# Altium footprint library WeAct_RP2040.PcbLib: 1 footprints
Each footprint in its own frame and in the unit in brackets; x right, y up, seen from the top. Pads: shape width x height; smd on the part's side, far side on the other; paste and mask are expansions set on the pad; w line width, h text height; cw(c..) or ccw(c..) is an arc to the next point about the centre after c.
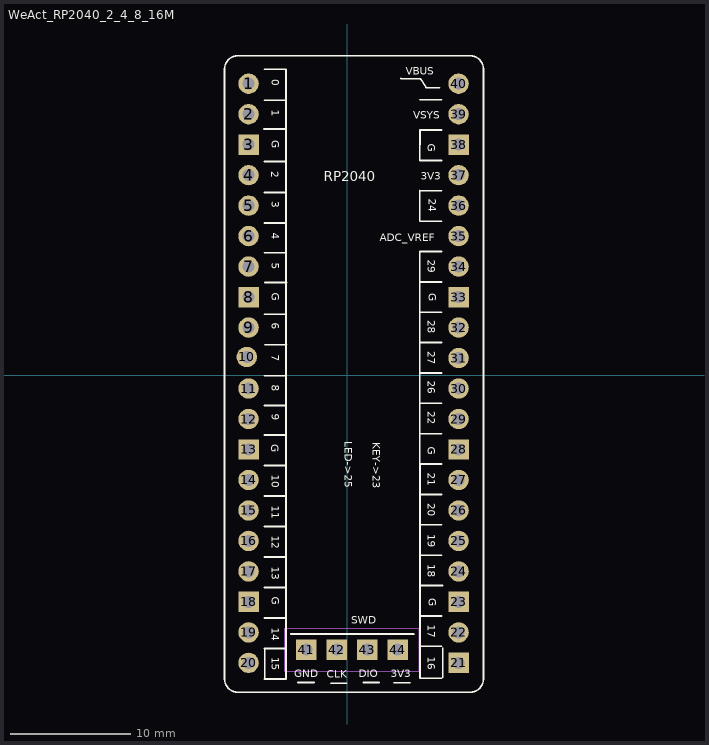
[diagram p0: the footprint, top view; thin cyan lines are the x and y axes]

## WeAct_RP2040_2_4_8_16M [mm]
pads (44):
  round 1.7 hole 1 paste+0 mask+0.102: 1(-8.239,24.295) 2(-8.239,21.755) 4(-8.239,16.675) 5(-8.239,14.135) 6(-8.239,11.595) 7(-8.239,9.055) 9(-8.239,3.975) 10(-8.382,1.524) 11(-8.239,-1.105) 12(-8.239,-3.645) 14(-8.239,-8.725) 15(-8.239,-11.265) 16(-8.239,-13.805) 17(-8.239,-16.345) 19(-8.239,-21.425) 20(-8.239,-23.965) 22(9.261,-21.425) 24(9.261,-16.345) 25(9.261,-13.805) 26(9.261,-11.265) 27(9.261,-8.725) 29(9.261,-3.645) 30(9.261,-1.105) 31(9.261,1.435) 32(9.261,3.975) 34(9.261,9.055) 35(9.261,11.595) 36(9.261,14.135) 37(9.261,16.675) 39(9.261,21.755) 40(9.261,24.295)
  rect 1.7x1.7 hole 1 paste+0 mask+0.102: 3(-8.239,19.215) 8(-8.239,6.515) 13(-8.239,-6.185) 18(-8.239,-18.885) 21(9.261,-23.965) 23(9.261,-18.885) 28(9.261,-6.185) 33(9.261,6.515) 38(9.261,19.215) 41(-3.429,-22.86) 42(-0.889,-22.86) 43(1.651,-22.86) 44(4.191,-22.86)
Top Overlay:
  lines w0.12: -6.909,-25.295 -6.909,-23.965 -6.909,-22.695 ; -4.759,-21.53 2.921,-21.53 4.191,-21.53 5.521,-21.53 ; 7.931,-25.215 7.931,-22.695
  lines w0.15: -6.973,20.52 -5.163,20.52 ; -6.933,10.2 -5.123,10.2 ; -6.923,-4.98 -5.113,-4.98 ; -6.923,-2.51 -5.113,-2.51 ; -6.923,5.08 -5.113,5.08 ; -6.913,-7.52 -5.103,-7.52 ; -6.908,-25.3 -5.108,-25.3 -5.108,25.5 ; -6.908,-22.76 -5.098,-22.76 ; -6.908,-20.22 -5.098,-20.22 ; -6.908,-17.68 -5.098,-17.68 ; -6.908,-15.14 -5.098,-15.14 ; -6.908,-12.6 -5.098,-12.6 ; -6.908,-10.06 -5.098,-10.06 ; -6.908,12.69 -5.098,12.69 ; -6.908,15.24 -5.098,15.24 ; -6.908,17.82 -5.098,17.82 ; -6.908,22.91 -5.098,22.91 ; -6.908,25.5 -5.098,25.5 ; -6.903,-0.04 -5.093,-0.04 ; -6.883,2.55 -5.073,2.55 ; -6.873,7.72 -5.063,7.72 ; -4.728,-21.58 5.572,-21.58 ; -4.118,-25.59 -2.778,-25.59 ; -1.398,-25.655 -0.058,-25.655 ; 1.312,-25.59 2.652,-25.59 ; 3.862,-25.625 5.202,-25.625 ; 4.462,24.73 6.102,24.69 ; 6.022,12.89 6.022,15.41 ; 6.029,17.885 6.054,20.455 ; 6.032,10.31 6.042,-25.24 ; 6.047,-25.25 7.847,-25.25 ; 6.047,-22.579 7.857,-22.579 ; 6.047,-20.049 7.847,-20.049 ; 6.047,-14.989 7.857,-14.989 ; 6.047,-12.459 7.847,-12.459 ; 6.047,-9.929 7.857,-9.929 ; 6.047,-7.399 7.847,-7.399 ; 6.047,-4.87 7.857,-4.87 ; 6.047,-2.34 7.847,-2.34 ; 6.047,0.19 7.857,0.19 ; 6.047,2.72 7.847,2.72 ; 6.047,5.25 7.857,5.25 ; 6.047,7.78 7.847,7.78 ; 6.047,10.31 7.857,10.31 ; 6.047,12.84 7.847,12.84 ; 6.047,15.37 7.857,15.37 ; 6.047,17.9 7.847,17.9 ; 6.047,20.43 7.857,20.43 ; 6.047,22.96 7.847,22.96 ; 6.092,24.68 6.562,23.98 ; 6.112,-17.519 7.912,-17.519 ; 6.542,23.96 7.682,23.96 ; -10.235,-25.326 ccw(c-9.155,-25.326) -9.155,-26.406 10.247,-26.406 ccw(c10.247,-25.326) 11.327,-25.326 11.327,25.536 ccw(c10.247,25.536) 10.247,26.616 -9.155,26.616 ccw(c-9.155,25.536) -10.235,25.536 -10.235,-25.326
  text "3V3" at 3.616,-25.156 h0.65
  text "16" at 6.71,-23.452 h0.65
  text "GND" at -4.414,-25.151 h0.65
  text "15" at -6.327,-23.512 h0.65
  text "DIO" at 0.946,-25.151 h0.65
  text "CLK" at -1.714,-25.196 h0.65
  text "VBUS" at 4.849,25.042 h0.65
  text "20" at 6.71,-10.672 h0.65
  text "18" at 6.71,-15.742 h0.65
  text "19" at 6.71,-13.242 h0.65
  text "VSYS" at 5.484,21.359 h0.65
  text "SWD" at 0.322,-20.71 h0.65
  text "G" at -6.326,-18.443 h0.65
  text "13" at -6.327,-15.972 h0.65
  text "14" at -6.327,-21.032 h0.65
  text "G" at 6.711,-5.971 h0.65
  text "21" at 6.71,-8.142 h0.65
  text "KEY->23" at 2.101,-5.58 h0.65
  text "3V3" at 6.119,16.279 h0.65
  text "ADC_VREF" at 2.69,11.18 h0.65
  text "10" at -6.327,-8.292 h0.65
  text "G" at -6.336,-5.743 h0.65
  text "11" at -6.327,-10.882 h0.65
  text "G" at 6.754,-18.565 h0.65
  text "17" at 6.71,-20.802 h0.65
  text "LED->25" at -0.229,-5.49 h0.65
  text "24" at 6.754,14.709 h0.65
  text "G" at 6.711,19.269 h0.65
  text "12" at -6.327,-13.362 h0.65
  text "7" at -6.326,1.727 h0.65
  text "8" at -6.326,-0.783 h0.65
  text "4" at -6.326,11.877 h0.65
  text "9" at -6.326,-3.203 h0.65
  text "6" at -6.326,4.357 h0.65
  text "G" at -6.326,6.867 h0.65
  text "5" at -6.326,9.357 h0.65
  text "22" at 6.71,-2.995 h0.65
  text "29" at 6.71,9.625 h0.65
  text "27" at 6.71,1.985 h0.65
  text "28" at 6.71,4.565 h0.65
  text "G" at 6.754,6.835 h0.65
  text "26" at 6.71,-0.445 h0.65
  text "2" at -6.346,17.017 h0.65
  text "3" at -6.326,14.487 h0.65
  text "0" at -6.326,24.667 h0.65
  text "1" at -6.326,22.137 h0.65
  text "G" at -6.326,19.577 h0.65
  text "RP2040" at -1.957,16.157 h0.82
Mechanical 6:
  lines w0.05: -5.209,-24.66 5.991,-24.66 5.991,-21.06 -5.209,-21.06 -5.209,-24.66